# Altium integrated library SPU0410LR5H-QB.IntLib: 1 symbol
Pins are listed as number, name and electrical type; pins without a type are passive.

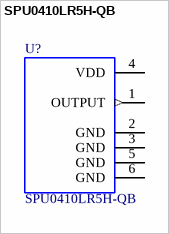
[diagram p0: symbol SPU0410LR5H-QB]

## SPU0410LR5H-QB
designator U?
Mic Mems Analog Omni -38db; MF: Knowles; SnapEDA_Link: https://www.snapeda.com/parts/SPU0410LR5H-QB/Knowles/view-part/?ref=snap; Availability: Unavailable; Price: None; Package: 2010 Knowles Acoustics; MP: SPU0410LR5H-QB; Value: *
footprint *XDCR_SPU0410LR5H-QB
pins: 1 OUTPUT (out), 2 GND (power), 3 GND (power), 4 VDD (power), 5 GND (power), 6 GND (power)